# EAGLE library part TM4C123GH6PMI (library ek-tm4c129exl)
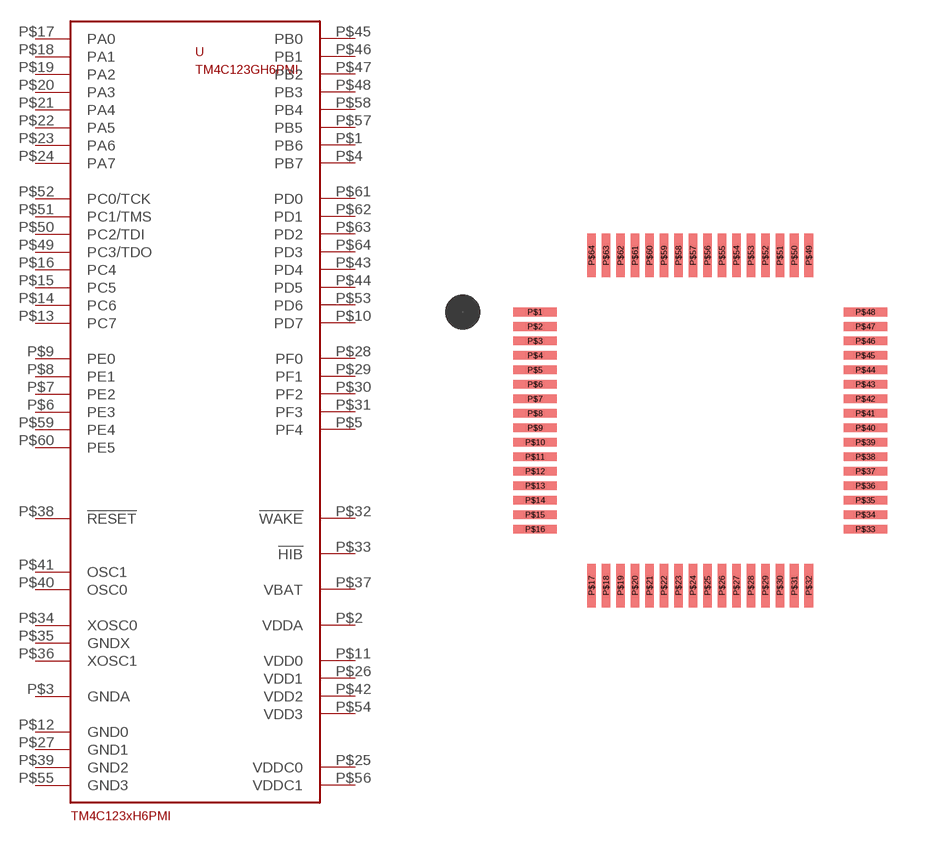
[diagram p7: symbol with the pads of LQFP-64-PM; footprint LQFP-64-PM]

Designator prefix -

## TM4C123GH6PMI  [LQFP-64-PM]
P$1  PB6
P$2  VDDA
P$3  GNDA
P$4  PB7
P$5  PF4
P$6  PE3
P$7  PE2
P$8  PE1
P$9  PE0
P$10  PD7
P$11  VDD0
P$12  GND0
P$13  PC7
P$14  PC6
P$15  PC5
P$16  PC4
P$17  PA0
P$18  PA1
P$19  PA2
P$20  PA3
P$21  PA4
P$22  PA5
P$23  PA6
P$24  PA7
P$25  VDDC0
P$26  VDD1
P$27  GND1
P$28  PF0
P$29  PF1
P$30  PF2
P$31  PF3
P$32  !WAKE
P$33  !HIB
P$34  XOSC0
P$35  GNDX
P$36  XOSC1
P$37  VBAT
P$38  !RESET
P$39  GND2
P$40  OSC0
P$41  OSC1
P$42  VDD2
P$43  PD4
P$44  PD5
P$45  PB0
P$46  PB1
P$47  PB2
P$48  PB3
P$49  PC3/TDO
P$50  PC2/TDI
P$51  PC1/TMS
P$52  PC0/TCK
P$53  PD6
P$54  VDD3
P$55  GND3
P$56  VDDC1
P$57  PB5
P$58  PB4
P$59  PE4
P$60  PE5
P$61  PD0
P$62  PD1
P$63  PD2
P$64  PD3

## Footprint LQFP-64-PM (pad centres in mm)
smd 1.5 x 0.3: P$1 0,0; P$2 0,-0.5; P$3 0,-1; P$4 0,-1.5; P$5 0,-2; P$6 0,-2.5; P$7 0,-3; P$8 0,-3.5; P$9 0,-4; P$10 0,-4.5; P$11 0,-5; P$12 0,-5.5; P$13 0,-6; P$14 0,-6.5; P$15 0,-7; P$16 0,-7.5; P$33 11.4,-7.5; P$34 11.4,-7; P$35 11.4,-6.5; P$36 11.4,-6; P$37 11.4,-5.5; P$38 11.4,-5; P$39 11.4,-4.5; P$40 11.4,-4; P$41 11.4,-3.5; P$42 11.4,-3; P$43 11.4,-2.5; P$44 11.4,-2; P$45 11.4,-1.5; P$46 11.4,-1; P$47 11.4,-0.5; P$48 11.4,0
smd 0.3 x 1.5: P$17 1.95,-9.45; P$18 2.45,-9.45; P$19 2.95,-9.45; P$20 3.45,-9.45; P$21 3.95,-9.45; P$22 4.45,-9.45; P$23 4.95,-9.45; P$24 5.45,-9.45; P$25 5.95,-9.45; P$26 6.45,-9.45; P$27 6.95,-9.45; P$28 7.45,-9.45; P$29 7.95,-9.45; P$30 8.45,-9.45; P$31 8.95,-9.45; P$32 9.45,-9.45; P$49 9.45,1.95; P$50 8.95,1.95; P$51 8.45,1.95; P$52 7.95,1.95; P$53 7.45,1.95; P$54 6.95,1.95; P$55 6.45,1.95; P$56 5.95,1.95; P$57 5.45,1.95; P$58 4.95,1.95; P$59 4.45,1.95; P$60 3.95,1.95; P$61 3.45,1.95; P$62 2.95,1.95; P$63 2.45,1.95; P$64 1.95,1.95